# Altium footprint library OTHERTEST.PCBLIB: 44 footprints (part 3 of 3)
Each footprint in its own frame and in the unit in brackets; x right, y up, seen from the top. Pads: shape width x height; smd on the part's side, far side on the other; paste and mask are expansions set on the pad; w line width, h text height; cw(c..) or ccw(c..) is an arc to the next point about the centre after c.
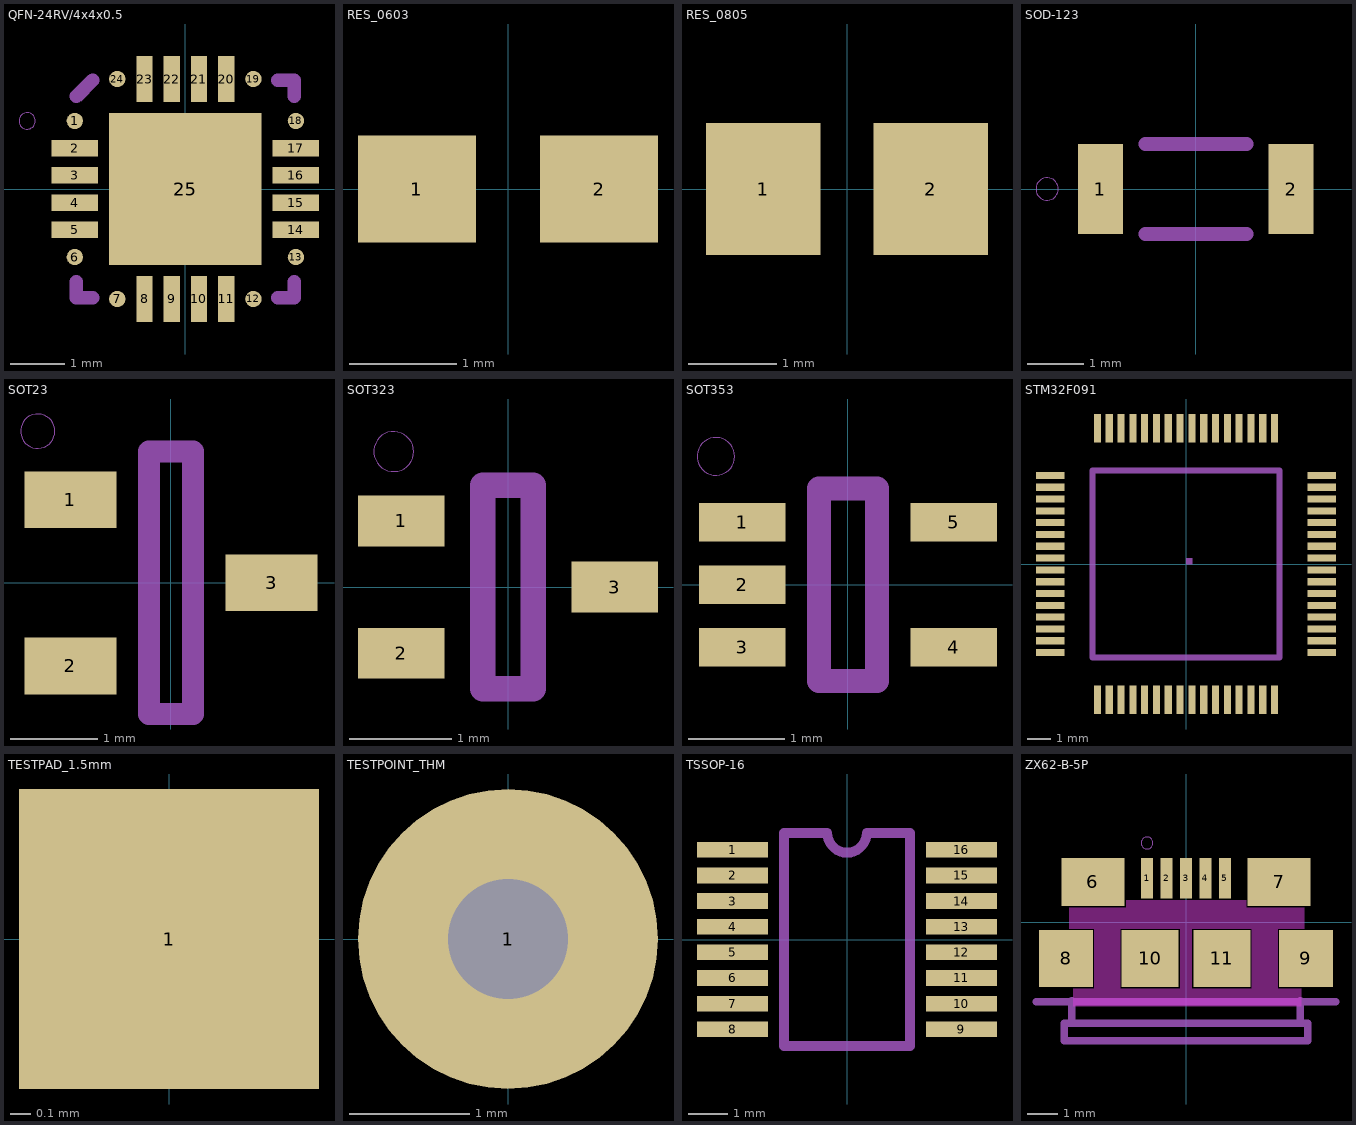
[diagram p2: the footprints below, top view; thin cyan lines are the x and y axes]

## QFN-24RV/4x4x0.5 [mm]
pads (25):
  rrect100% 0.3x0.3 smd paste+0 mask+0: 1(-2.03,1.25) 6(-2.03,-1.25) 7(-1.25,-2.02) 12(1.25,-2.02) 13(2.03,-1.25) 18(2.03,1.25) 19(1.25,2.02) 24(-1.25,2.02)
  rect 0.85x0.3 smd: 2(-2.03,0.75) 3(-2.03,0.25) 4(-2.03,-0.25) 5(-2.03,-0.75) 14(2.03,-0.75) 15(2.03,-0.25) 16(2.03,0.25) 17(2.03,0.75)
  rect 0.3x0.85 smd: 8(-0.75,-2.02) 9(-0.25,-2.02) 10(0.25,-2.02) 11(0.75,-2.02) 20(0.75,2.02) 21(0.25,2.02) 22(-0.25,2.02) 23(-0.75,2.02)
  rect 2.8x2.8 smd: 25(0,0)
Top Layer:
  region: 0,0 0.254,0 0.254,0.254 0,0.254
  region: 0,0 0.254,0 0.254,0.254 0,0.254
  region: 0,0 0.254,0 0.254,0.254 0,0.254
  region: 0,0 0.254,0 0.254,0.254 0,0.254
  region: 0,0 0.254,0 0.254,0.254 0,0.254
  region: 0,0 0.254,0 0.254,0.254 0,0.254
  region: 0,0 0.254,0 0.254,0.254 0,0.254
  region: 0,0 0.254,0 0.254,0.254 0,0.254
Top Paste:
  region: 0,0 0.254,0 0.254,0.254 0,0.254
  region: 0,0 0.254,0 0.254,0.254 0,0.254
  region: 0,0 0.254,0 0.254,0.254 0,0.254
  region: 0,0 0.254,0 0.254,0.254 0,0.254
  region: 0,0 0.254,0 0.254,0.254 0,0.254
  region: 0,0 0.254,0 0.254,0.254 0,0.254
  region: 0,0 0.254,0 0.254,0.254 0,0.254
  region: 0,0 0.254,0 0.254,0.254 0,0.254
Top Solder:
  region: 0,0 0.254,0 0.254,0.254 0,0.254
  region: 0,0 0.254,0 0.254,0.254 0,0.254
  region: 0,0 0.254,0 0.254,0.254 0,0.254
  region: 0,0 0.254,0 0.254,0.254 0,0.254
  region: 0,0 0.254,0 0.254,0.254 0,0.254
  region: 0,0 0.254,0 0.254,0.254 0,0.254
  region: 0,0 0.254,0 0.254,0.254 0,0.254
  region: 0,0 0.254,0 0.254,0.254 0,0.254
Mechanical 22:
  circle w0: c-2.905,1.25 r0.15
  lines w0.25: -2.001,-1.7 -2.001,-2 -1.702,-2 ; -2.001,1.7 -1.702,2 ; 1.7,-2 2,-2 2,-1.7 ; 1.7,2 2,2 2,1.7

## RES_0603 [mm]
pads (2):
  rect 1.1x1 smd: 1(-0.85,0) 2(0.85,0)

## RES_0805 [mm]
pads (2):
  rect 1.3x1.5 smd: 1(-0.95,0) 2(0.95,0)

## SOD-123 [mil]
pads (2):
  rect 31.5x62.99 smd: 1(-66.93,0) 2(66.93,0)
Mechanical 22:
  circle w0: c-104.33,0 r7.87
  lines w9.84: -35.43,-31.5 35.43,-31.5 ; -35.43,31.5 35.43,31.5

## SOT23 [mm]
pads (3):
  rect 1.05x0.65 smd: 1(-1.15,0.95) 2(-1.15,-0.95) 3(1.15,0)
Mechanical 22:
  circle w0: c-1.524,1.734 r0.196
  lines w0.25: -0.25,-1.5 -0.25,1.5 0.25,1.5 0.25,-1.5 -0.25,-1.5

## SOT323 [mm]
pads (3):
  rect 0.85x0.5 smd: 1(-1.05,0.65) 2(-1.05,-0.65) 3(1.05,0)
Mechanical 22:
  circle w0: c-1.124,1.333 r0.196
  lines w0.25: -0.25,-1 -0.25,1 0.25,1 0.25,-1 -0.25,-1

## SOT353 [mm]
pads (5):
  rect 0.9x0.4 smd: 1(-1.1,0.65) 2(-1.1,0) 3(-1.1,-0.65) 4(1.1,-0.65) 5(1.1,0.65)
Mechanical 22:
  circle w0: c-1.374,1.334 r0.196
  lines w0.25: -0.301,-1 -0.301,1 0.3,1 0.3,-1 -0.301,-1

## STM32F091 [mm]
pads (64):
  rect 1.2x0.3 smd: 1(-5.75,3.75) 2(-5.75,3.25) 3(-5.75,2.75) 4(-5.75,2.25) 5(-5.75,1.75) 6(-5.75,1.25) 7(-5.75,0.75) 8(-5.75,0.25) 9(-5.75,-0.25) 10(-5.75,-0.75) 11(-5.75,-1.25) 12(-5.75,-1.75) 13(-5.75,-2.25) 14(-5.75,-2.75) 15(-5.75,-3.25) 16(-5.75,-3.75) 33(5.75,-3.75) 34(5.75,-3.25) 35(5.75,-2.75) 36(5.75,-2.25) 37(5.75,-1.75) 38(5.75,-1.25) 39(5.75,-0.75) 40(5.75,-0.25) 41(5.75,0.25) 42(5.75,0.75) 43(5.75,1.25) 44(5.75,1.75) 45(5.75,2.25) 46(5.75,2.75) 47(5.75,3.25) 48(5.75,3.75)
  rect 0.3x1.2 smd: 17(-3.75,-5.75) 18(-3.25,-5.75) 19(-2.75,-5.75) 20(-2.25,-5.75) 21(-1.75,-5.75) 22(-1.25,-5.75) 23(-0.75,-5.75) 24(-0.25,-5.75) 25(0.25,-5.75) 26(0.75,-5.75) 27(1.25,-5.75) 28(1.75,-5.75) 29(2.25,-5.75) 30(2.75,-5.75) 31(3.25,-5.75) 32(3.75,-5.75) 49(3.75,5.75) 50(3.25,5.75) 51(2.75,5.75) 52(2.25,5.75) 53(1.75,5.75) 54(1.25,5.75) 55(0.75,5.75) 56(0.25,5.75) 57(-0.25,5.75) 58(-0.75,5.75) 59(-1.25,5.75) 60(-1.75,5.75) 61(-2.25,5.75) 62(-2.75,5.75) 63(-3.25,5.75) 64(-3.75,5.75)
Mechanical 22:
  region: 0,0 0.254,0 0.254,0.254 0,0.254
  region: 0,0 0.254,0 0.254,0.254 0,0.254
  lines w0.25: -3.95,-3.95 3.95,-3.95 3.95,3.95 -3.95,3.95 -3.95,-3.95

## TESTPAD_1.5mm [mm]
pads (1):
  rect 1.5x1.5 smd: 1(0,0)

## TESTPOINT_THM [mm]
pads (1):
  round 2.5 / inner round 1.524 / far side round 2.5 hole 1: 1(0,0)

## TSSOP-16 [mm]
pads (16):
  rect 1.8x0.4 smd: 1(-2.9,2.275) 2(-2.9,1.625) 3(-2.9,0.975) 4(-2.9,0.325) 5(-2.9,-0.325) 6(-2.9,-0.975) 7(-2.9,-1.625) 8(-2.9,-2.275) 9(2.9,-2.275) 10(2.9,-1.625) 11(2.9,-0.975) 12(2.9,-0.325) 13(2.9,0.325) 14(2.9,0.975) 15(2.9,1.625) 16(2.9,2.275)
Mechanical 22:
  lines w0.25: -1.6,-2.7 -1.6,2.7 -0.5,2.7 ccw(c0,2.701) 0.5,2.7 1.6,2.7 1.6,-2.7 -1.6,-2.7

## ZX62-B-5P [mm]
pads (11):
  rect 0.4x1.35 smd: 1(-1.3,1.475) 2(-0.65,1.475) 3(0,1.475) 4(0.65,1.475) 5(1.3,1.475)
  rect 2.1x1.6 smd: 6(-3.1,1.35) 7(3.1,1.35)
  rect 1.8x1.9 smd: 8(-4,-1.2) 9(4,-1.2)
  rect 1.9x1.9 smd: 10(-1.2,-1.2) 11(1.2,-1.2)
Top Layer keep-out:
  region: -3.75,-2.205 -3.75,-2.804 3.85,-2.804 3.85,-2.205
  region: -3.9,0.495 -3.9,-0.205 3.95,-0.205 3.95,0.495
  region: -3.05,-0.004 -3.05,-2.305 -2.2,-2.305 -2.2,-0.004
  region: -0.2,-0.055 -0.2,-2.354 0.2,-2.354 0.2,-0.055
  region: 2.2,-0.104 2.2,-2.405 3.05,-2.405 3.05,-0.104
  region: -2,0.745 -2,0.396 2,0.396 2,0.745
Mechanical 8:
  lines w0.25: -5,-2.652 5,-2.652
Mechanical 22:
  circle w0: c-1.3,2.646 r0.2
  lines w0.25: -3.8,-3.355 -3.8,-2.605 ; 3.8,-3.355 3.8,-2.605 ; -4.05,-3.954 -4.05,-3.355 4.05,-3.355 4.05,-3.954 -4.05,-3.954